# EAGLE library part INFINEON_TECHNOLOGIES-MOSFET-BSC117N08NS5ATMA1 (library Module_ICs)
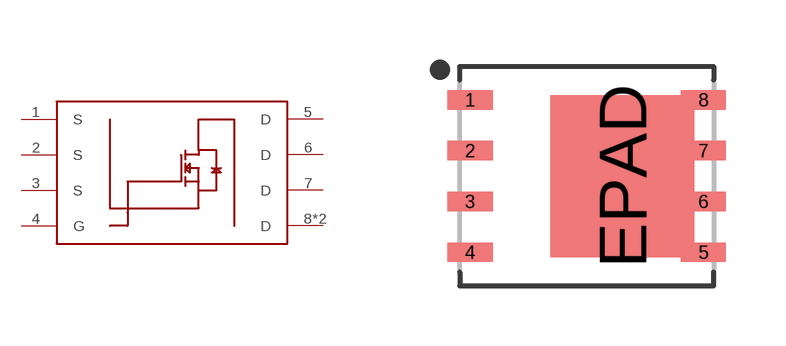
[diagram p45: symbol with the pads of INFINEON_TECHNOLOGIES-MOSFET-BSC117N08NS5ATMA1; footprint INFINEON_TECHNOLOGIES-MOSFET-BSC117N08NS5ATMA1]

Designator prefix U

## INFINEON_TECHNOLOGIES-MOSFET-BSC117N08NS5ATMA1  [INFINEON_TECHNOLOGIES-MOSFET-BSC117N08NS5ATMA1]
1  S
2  S
3  S
4  G
5  D
6  D
7  D
8  D
EPAD  D

## Footprint INFINEON_TECHNOLOGIES-MOSFET-BSC117N08NS5ATMA1 (pad centres in mm)
8-SON (DFN), 1.27 mm pitch, 5.32 X 6.15 X 1.10 mm body 8-pin SON (DFN) package with 1.27 mm pitch with body size 5.32 X 6.15 X 1.10 mm
smd 1.129 x 0.486: 1 -2.918,1.905; 2 -2.918,0.635; 3 -2.918,-0.635; 4 -2.918,-1.905; 5 2.918,-1.905; 6 2.918,-0.635; 7 2.918,0.635; 8 2.918,1.905
smd 3.6 x 4.05: EPAD 0.889,0